# EAGLE library part MCP4132 (library mcp412)
MCP413X/415X/423X/425X 7/8-Bit Single/Dual SPI Digital POT with Volatile Memory The MCP41XX and MCP42XX devices offer a wide range of product offerings using an SPI interface. This family of devices support 7-bit and 8-bit resistor networks, and Potentiometer and Rheostat pinouts.
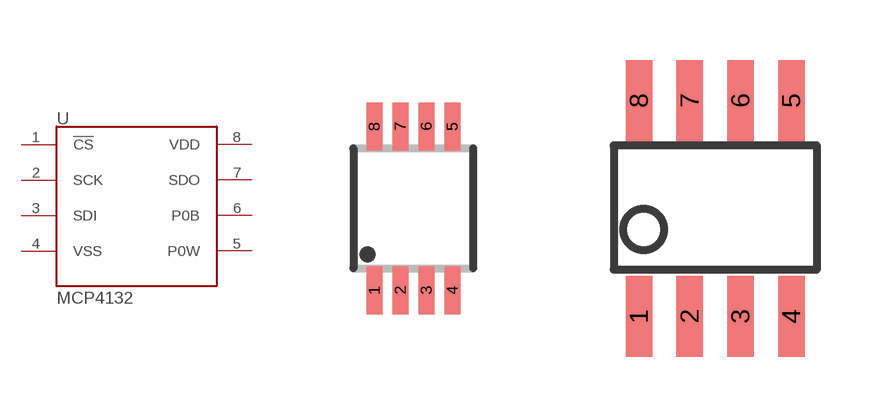
[diagram p0: symbol with the pads of MSOP8; footprints MSOP8, SOIC-8]

Designator prefix U

## MCP4132  [MSOP8]
1  !CS
2  SCK
3  SDI
4  VSS
5  P0W
6  P0B
7  SDO
8  VDD

## MCP4132SOIC8  [SOIC-8]
Pads as for MSOP8

## Footprint MSOP8 (pad centres in mm)
MSOP8
smd 0.4 x 1.2: 1 -0.975,-2.05; 2 -0.325,-2.05; 3 0.325,-2.05; 4 0.975,-2.05; 5 0.975,2.05; 6 0.325,2.05; 7 -0.325,2.05; 8 -0.975,2.05

## Footprint SOIC-8 (pad centres in mm)
smd 0.66 x 2.032: 1 -1.905,-2.7; 2 -0.635,-2.7; 3 0.635,-2.7; 4 1.905,-2.7; 5 1.905,2.7; 6 0.635,2.7; 7 -0.635,2.7; 8 -1.905,2.7